# Altium schematic symbol library NSVMSD1819A-RT1G.SchLib: 1 symbol
Pins are listed as number, name and electrical type; pins without a type are passive.

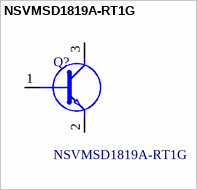
[diagram p0: symbol NSVMSD1819A-RT1G]

## NSVMSD1819A-RT1G
designator Q?
Available in 8 mm, 7-inch/3000 Unit Tape and Reel; Low VCE(sat), < 0.5 V; High hFE, 210-460; Moisture Sensitivity Level 1; ESD Protection: Human Body Model > 4000 V ESD Protection: Machine Model > 400 V; Pb-Free Package is Available; S and NSV Prefix for Automotive and Other Applications Requiring Unique Site and Control Change Requirements; AEC-Q101 Qualified and PPAP Capable; Manufacturer_Name: onsemi; Geometry.Height: 1mm; Mouser Part Number: *; Mouser Price/Stock: *; Manufacturer_Part_Number: NSVMSD1819A-RT1G; Datasheet Link: https://www.onsemi.com/download/data-sheet/pdf/msd1819a-rt1-d.pdf
footprint SOT65P220X100-3N
pins: 1 B, 2 E, 3 C